# EAGLE library part SN74AVC8T245RHLR (library PTN78000WAH)
IC, NON INVERTING BUS TXRX, QFN-24
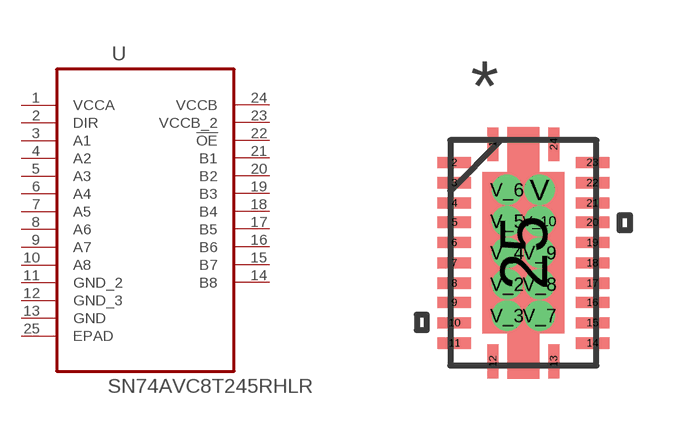
[diagram p13: symbol with the pads of TI_QFN-24_RHL24; footprint TI_QFN-24_RHL24]

Designator prefix U

## SN74AVC8T245RHLR (MPN: SN74AVC8T245RHLR; OC_FARNELL: 2145980; OC_NEWARK: 94T5031; PACKAGE: QFN-24; SUPPLIER: TEXAS INSTRUMENTS)  [TI_QFN-24_RHL24]
1  VCCA  pwr
2  DIR  pas
3  A1  pas
4  A2  pas
5  A3  pas
6  A4  pas
7  A5  pas
8  A6  pas
9  A7  pas
10  A8  pas
11  GND_2  pwr
12  GND_3  pwr
13  GND  pwr
14  B8  pas
15  B7  pas
16  B6  pas
17  B5  pas
18  B4  pas
19  B3  pas
20  B2  pas
21  B1  pas
22  !OE  pas
23  VCCB_2  pwr
24  VCCB  pwr
25  EPAD  pas

## Footprint TI_QFN-24_RHL24 (pad centres in mm)
smd 0.279 x 0.838: 1 -0.762,2.718; 12 -0.762,-2.718; 13 0.762,-2.718; 24 0.762,2.718
smd 0.838 x 0.279: 2 -1.727,2.261; 3 -1.727,1.753; 4 -1.727,1.245; 5 -1.727,0.762; 6 -1.727,0.254; 7 -1.727,-0.254; 8 -1.727,-0.762; 9 -1.727,-1.245; 10 -1.727,-1.753; 11 -1.727,-2.261; 14 1.727,-2.261; 15 1.727,-1.753; 16 1.727,-1.245; 17 1.727,-0.762; 18 1.727,-0.254; 19 1.727,0.254; 20 1.727,0.762; 21 1.727,1.245; 22 1.727,1.753; 23 1.727,2.261
smd 2.057 x 4.039: 25 0,0
drill 0.254: V 0.406,1.575; V_2 -0.406,-0.787; V_3 -0.406,-1.575; V_4 -0.406,0; V_5 -0.406,0.787; V_6 -0.406,1.575; V_7 0.406,-1.575; V_8 0.406,-0.787; V_9 0.406,0; V_10 0.406,0.787